# EAGLE library part TB-840502-8 (library RS-extra-cons)
Terminal Block screw contact
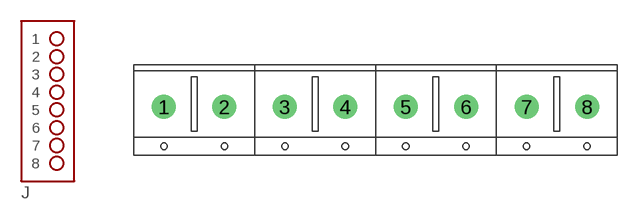
[diagram p2: symbol with the pads of TB-840502-8; footprint TB-840502-8]

Designator prefix J

## TB-840502-8  [TB-840502-8]
1  1  pas
2  2  pas
3  3  pas
4  4  pas
5  5  pas
6  6  pas
7  7  pas
8  8  pas

## Footprint TB-840502-8 (pad centres in mm)
drill 1.321: 1 -17.5,0; 2 -12.5,0; 3 -7.5,0; 4 -2.5,0; 5 2.5,0; 6 7.5,0; 7 12.5,0; 8 17.5,0